# Altium footprint library SOT223.PcbLib: 1 footprints
Each footprint in its own frame and in the unit in brackets; x right, y up, seen from the top. Pads: shape width x height; smd on the part's side, far side on the other; paste and mask are expansions set on the pad; w line width, h text height; cw(c..) or ccw(c..) is an arc to the next point about the centre after c.
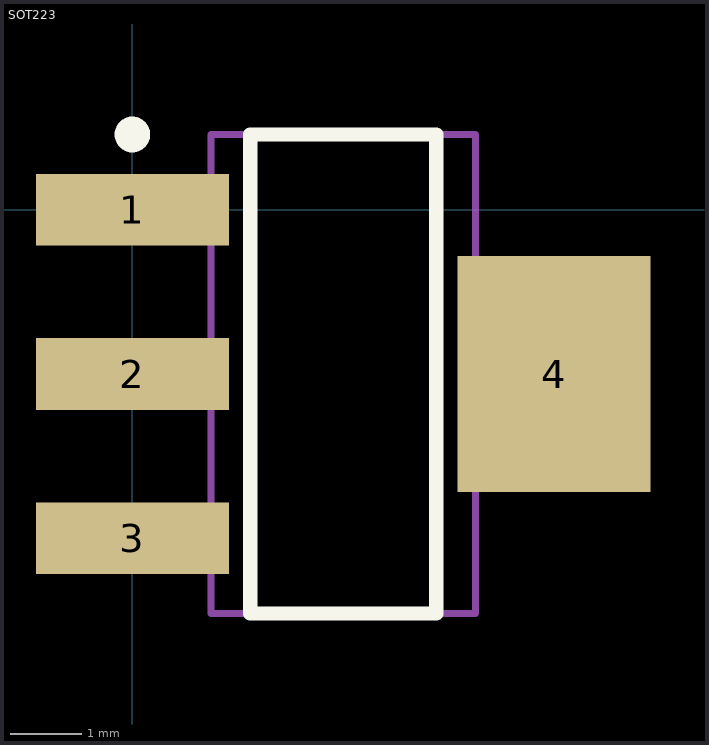
[diagram p0: the footprint, top view; thin cyan lines are the x and y axes]

## SOT223 [mm]
pads (4):
  rect 2.7x1 smd: 1(0,0) 2(0,-2.3) 3(0,-4.6)
  rect 2.7x3.3 smd: 4(5.9,-2.3)
Top Overlay:
  circle w0.25: c0,1.05 r0.125
  lines w0.2: 1.65,-5.65 1.65,1.05 4.25,1.05 4.25,-5.65 1.65,-5.65
Mechanical 13:
  lines w0.1: 1.1,-5.65 1.1,1.05 4.8,1.05 4.8,-5.65 1.1,-5.65
3D body: height 1.64, standoff -0.01, extent -0.55,-5.55 6.45,0.95